# EAGLE library part JTAG-10 (library mestrado)
JTAG 10-Pin Programming/Debug Connector
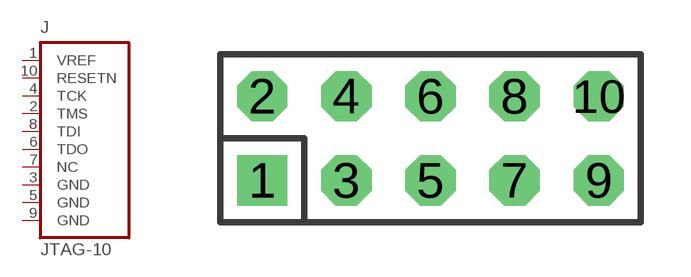
[diagram p8: symbol with the pads of JTAG-10; footprint JTAG-10]

Designator prefix J

## JTAG-10  [JTAG-10]
1  VREF  pas
2  TMS  pas
3  GND  pas
4  TCK  pas
5  GND  pas
6  TDO  pas
7  NC  nc
8  TDI  pas
9  GND  pas
10  RESETN  pas

## Footprint JTAG-10 (pad centres in mm)
JTAG - 10 PIN CONNECTOR
drill 1.016 square: 1 -5.08,-1.27
drill 1.016 octagon: 2 -5.08,1.27; 3 -2.54,-1.27; 4 -2.54,1.27; 5 0,-1.27; 6 0,1.27; 7 2.54,-1.27; 8 2.54,1.27; 9 5.08,-1.27; 10 5.08,1.27